# EAGLE library part ICTM101A (library KS-SCH-01466-01 OSSAT_OBC_Dev_Board_Library)
IS61WV204816BLL-10TLI SRAM 4MByte (2Mx16) 48pin-TSOP Max 85C
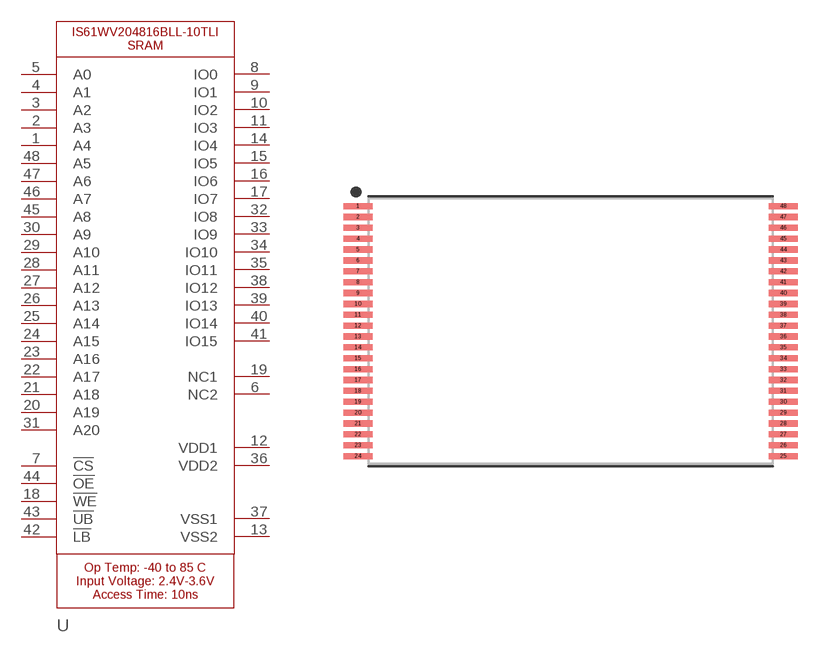
[diagram p7: symbol with the pads of IS61WV204816BLL-10TLI; footprint IS61WV204816BLL-10TLI]

Designator prefix U

## ICTM101A_IS61WV204816BLL-10TLI_SRAM_4MBYTE (TYPE: IS61WV204816)  [IS61WV204816BLL-10TLI]
1  A4
2  A3
3  A2
4  A1
5  A0
6  NC2  nc
7  !CS
8  IO0
9  IO1
10  IO2
11  IO3
12  VDD1
13  VSS2
14  IO4
15  IO5
16  IO6
17  IO7
18  !WE
19  NC1  nc
20  A19
21  A18
22  A17
23  A16
24  A15
25  A14
26  A13
27  A12
28  A11
29  A10
30  A9
31  A20
32  IO8
33  IO9
34  IO10
35  IO11
36  VDD2
37  VSS1
38  IO12
39  IO13
40  IO14
41  IO15
42  !LB
43  !UB
44  !OE
45  A8
46  A7
47  A6
48  A5

## Footprint IS61WV204816BLL-10TLI (pad centres in mm)
48-SOP, 0.50 mm pitch, 20.00 mm span, 12.00 X 18.40 X 1.20 mm body 48-pin SOP package with 0.50 mm pitch, 20.00 mm span with body size 12.00 X 18.40 X 1.20 mm
smd 1.338 x 0.284: 1 -9.79,5.75; 2 -9.79,5.25; 3 -9.79,4.75; 4 -9.79,4.25; 5 -9.79,3.75; 6 -9.79,3.25; 7 -9.79,2.75; 8 -9.79,2.25; 9 -9.79,1.75; 10 -9.79,1.25; 11 -9.79,0.75; 12 -9.79,0.25; 13 -9.79,-0.25; 14 -9.79,-0.75; 15 -9.79,-1.25; 16 -9.79,-1.75; 17 -9.79,-2.25; 18 -9.79,-2.75; 19 -9.79,-3.25; 20 -9.79,-3.75; 21 -9.79,-4.25; 22 -9.79,-4.75; 23 -9.79,-5.25; 24 -9.79,-5.75; 25 9.79,-5.75; 26 9.79,-5.25; 27 9.79,-4.75; 28 9.79,-4.25; 29 9.79,-3.75; 30 9.79,-3.25; 31 9.79,-2.75; 32 9.79,-2.25; 33 9.79,-1.75; 34 9.79,-1.25; 35 9.79,-0.75; 36 9.79,-0.25; 37 9.79,0.25; 38 9.79,0.75; 39 9.79,1.25; 40 9.79,1.75; 41 9.79,2.25; 42 9.79,2.75; 43 9.79,3.25; 44 9.79,3.75; 45 9.79,4.25; 46 9.79,4.75; 47 9.79,5.25; 48 9.79,5.75